# Altium schematic symbol library DS3231SN#.SchLib: 1 symbol
Pins are listed as number, name and electrical type; pins without a type are passive.

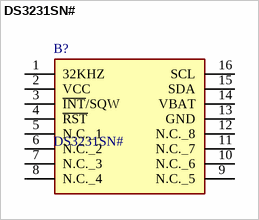
[diagram p0: symbol DS3231SN#]

## DS3231SN#
designator B?
Real Time Clock Serial Maxim DS3231SN# Real Time Clock, Battery Backup, Calendar, Clock, I2C, 5.5 V, 16-Pin SOIC; Manufacturer_Name: Analog Devices; Geometry.Height: 2.65mm; Manufacturer_Part_Number: DS3231SN#; Mouser Part Number: 700-DS3231SN#; Mouser Price/Stock: https://www.mouser.co.uk/ProductDetail/Analog-Devices-Maxim-Integrated/DS3231SN?qs=1eQvB6Dk1vhUlr8%2FOrV0Fw%3D%3D; Arrow Part Number: DS3231SN#; Arrow Price/Stock: https://www.arrow.com/en/products/ds3231sn/analog-devices?region=nac; Datasheet Link: https://datasheets.maximintegrated.com/en/ds/DS3231.pdf
footprint SOIC127P1032X265-16N
pins: 1 32KHZ, 2 VCC, 3 ~{INT}/SQW, 4 ~{RST}, 5 N.C._1, 6 N.C._2, 7 N.C._3, 8 N.C._4, 9 N.C._5, 10 N.C._6, 11 N.C._7, 12 N.C._8, 13 GND, 14 VBAT, 15 SDA, 16 SCL